# Altium schematic symbol library IMX291.SchLib: 12 symbols
Pins are listed as number, name and electrical type; pins without a type are passive.

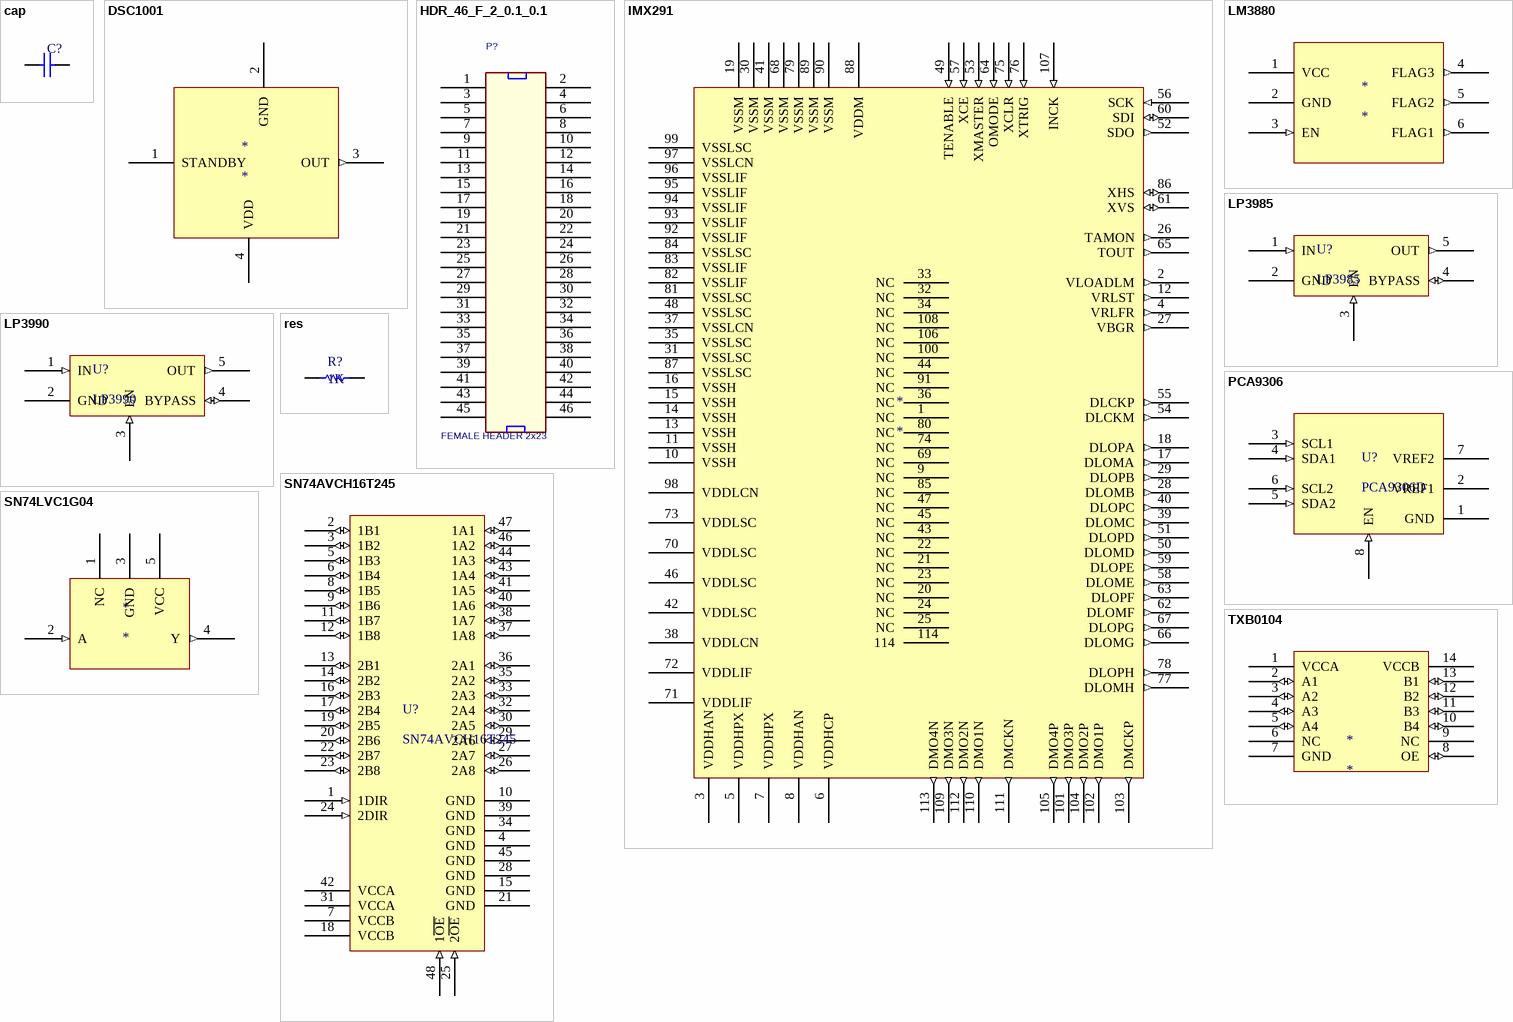
[diagram p0: symbols cap to TXB0104]

## cap
designator C?
footprint 0603 (Chip Capacitor, 2-Leads, Body 1.6x0.8mm, IPC Medium Density)
footprint 0402 (Chip Resistor, 2-Leads, Body 1.0x0.5mm, IPC Medium Density)
footprint 0201 (Chip Resistor, 2-Leads, Body 0.6x0.3mm, IPC Medium Density)
footprint 1210
footprint Inductor (Precision Wire Wound Inductor, 2-Leads, Body 3.8x3.8mm, IPC Medium Density)
pins: 1, 2

## DSC1001
designator *
footprint DSC1001
pins: 1 STANDBY, 2 GND, 3 OUT (out), 4 VDD

## HDR_46_F_2_0.1_0.1
designator P?, comment FEMALE HEADER 2x23
CONN HEADER FMAL 46PS.1" DL GOLD; Manufacturer: Sullins Connector Solutions; Manufacturer Part Number: PPPC232LFBN-RC; Number of Positions: 46; Number of Positions Loaded: All; Pitch: 0.100" (2.54mm); Supplier 1: Digi-Key; Supplier Part Number 1: S7126-ND; RoHS: RoHS Compliant; Category: Connectors, Interconnects; Stock 1: 750; Pricing 1: 1=2.75, 10=2.325, 25=2.2196, 50=2.0084, 100=1.7969, 250=1.58552, 500=1.4798, 1000=1.3741, 2500=1.32125 (USD); Connector Type: Header; Contact Type: Female Socket; Number of Rows: 2; Row Spacing: 0.100" (2.54mm); Mounting Type: Through Hole; Termination: Solder; Fastening Type: -; Features: -; Contact Finish: Gold; Contact Finish Thickness: Flash; Color: Black; Packaging: Bulk; ComponentLink1URL: http://www.sullinscorp.com/drawings/78_P(N)PxCxxxLFBN-RC,_10492-G.pdf; ComponentLink1Description: http://www.sullinscorp.com/drawings/78_P(N)PxCxxxLFBN-RC,_10492-G.pdf
footprint HEADER23X2
pins: 1, 2 26, 3 2, 4 27, 5 3, 6 28, 7 4, 8 29, 9 5, 10 30, 11 6, 12 31, 13 7, 14 32, 15 8, 16 33, 17 9, 18 34, 19 10, 20 35, 21 11, 22 36, 23 12, 24 37, 25 13, 26 38, 27 14, 28 39, 29 15, 30 40, 31 16, 32 41, 33 17, 34 42, 35 18, 36 43, 37 19, 38 44, 39 20, 40 45, 41 21, 42 46, 43 22, 44 47, 45 23, 46 48

## IMX291
designator *
footprint LGA110C80P14X11_1200X930X350 (LGA, 110-Leads, Body 12.00x9.30mmx3.50mm, Pitch 0.80mm)
pins: 1 NC, 2 VLOADLM (out), 3 VDDHAN (power), 4 VRLFR (out), 5 VDDHPX (power), 6 VDDHCP (power), 7 VDDHPX (power), 8 VDDHAN (power), 9 NC, 10 VSSH (power), 11 VSSH (power), 12 VRLST (out), 13 VSSH (power), 14 VSSH (power), 15 VSSH (power), 16 VSSH (power), 17 DLOMA (out), 18 DLOPA (out), 19 VSSM (power), 20 NC, 21 NC, 22 NC, 23 NC, 24 NC, 25 NC, 26 TAMON (out), 27 VBGR (out), 28 DLOMB (out), 29 DLOPB (out), 30 VSSM (power), 31 VSSLSC (power), 32 NC, 33 NC, 34 NC, 35 VSSLSC (power), 36 NC, 37 VSSLCN (power), 38 VDDLCN (power), 39 DLOMC (out), 40 DLOPC (out), 41 VSSM (power), 42 VDDLSC (power), 43 NC, 44 NC, 45 NC, 46 VDDLSC (power), 47 NC, 48 VSSLSC (power), 49 TENABLE (in), 50 DLOMD (out), 51 DLOPD (out), 52 SDO (out), 53 XMASTER (in), 54 DLCKM (out), 55 DLCKP (out), 56 SCK (in), 57 XCE (in), 58 DLOME (out), 59 DLOPE (out), 60 SDI (io), 61 XVS (io), 62 DLOMF (out), 63 DLOPF (out), 64 OMODE (in), 65 TOUT (out), 66 DLOMG (out), 67 DLOPG (out), 68 VSSM (power), 69 NC, 70 VDDLSC (power), 71 VDDLIF (power), 72 VDDLIF (power), 73 VDDLSC (power), 74 NC, 75 XCLR (in), 76 XTRIG (in), 77 DLOMH (out), 78 DLOPH (out), 79 VSSM (power), 80 NC, 81 VSSLSC (power), 82 VSSLIF (power), 83 VSSLIF (power), 84 VSSLSC (power), 85 NC, 86 XHS (io), 87 VSSLSC (power), 88 VDDM (power), 89 VSSM (power), 90 VSSM (power), 91 NC, 92 VSSLIF (power), 93 VSSLIF (power), 94 VSSLIF (power), 95 VSSLIF (power), 96 VSSLIF (power), 97 VSSLCN (power), 98 VDDLCN (power), 99 VSSLSC (power), 100 NC, 101 DMO3P (out), 102 DMO1P (out), 103 DMCKP (out), 104 DMO2P (out), 105 DMO4P (out), 106 NC, 107 INCK (in), 108 NC, 109 DMO3N (out), 110 DMO1N (out), 111 DMCKN (out), 112 DMO2N (out), 113 DMO4N (out), 114

## LM3880
designator *
footprint SOT23-6_M (SOT23, 6-Leads, Body 2.9x1.6mm, Pitch 0.95mm, Lead Span 2.7mm, IPC Low Density)
pins: 1 VCC (power), 2 GND (power), 3 EN (in), 4 FLAG3 (out), 5 FLAG2 (out), 6 FLAG1 (out)

## LP3985
designator U?
footprint DBV005 (SOT-23/SC-74A; 5 Leads; Body 3 x 3 mm, inc. leads (LxW max))
pins: 1 IN (in), 2 GND (power), 3 EN (in), 4 BYPASS (io), 5 OUT (out)

## LP3990
designator U?
footprint DBV005 (SOT-23/SC-74A; 5 Leads; Body 3 x 3 mm, inc. leads (LxW max))
pins: 1 IN (in), 2 GND (power), 3 EN (in), 4 BYPASS (io), 5 OUT (out)

## PCA9306
designator U?, comment PCA9306D
footprint D008_M (8-Pin Small Outline Integrated Circuit 1.27 mm Pitch, IPC Low Density)
pins: 1 GND (power), 2 VREF1 (power), 3 SCL1 (in), 4 SDA1 (in), 5 SDA2 (in), 6 SCL2 (in), 7 VREF2 (power), 8 EN (in)

## res
designator R?, comment 1K
footprint 0603 (Chip Capacitor, 2-Leads, Body 1.6x0.8mm, IPC Medium Density)
footprint 0201 (Chip Resistor, 2-Leads, Body 0.6x0.3mm, IPC Medium Density)
footprint 0402 (Chip Resistor, 2-Leads, Body 1.0x0.5mm, IPC Medium Density)
pins: 1, 2

## SN74AVCH16T245
designator U?
footprint TSSOP48
pins: 1 1DIR (in), 2 1B1 (io), 3 1B2 (io), 4 GND (power), 5 1B3 (io), 6 1B4 (io), 7 VCCB (power), 8 1B5 (io), 9 1B6 (io), 10 GND (power), 11 1B7 (io), 12 1B8 (io), 13 2B1 (io), 14 2B2 (io), 15 GND (power), 16 2B3 (io), 17 2B4 (io), 18 VCCB (power), 19 2B5 (io), 20 2B6 (io), 21 GND (power), 22 2B7 (io), 23 2B8 (io), 24 2DIR (in), 25 2~{OE} (in), 26 2A8 (io), 27 2A7 (io), 28 GND (power), 29 2A6 (io), 30 2A5 (io), 31 VCCA (power), 32 2A4 (io), 33 2A3 (io), 34 GND (power), 35 2A2 (io), 36 2A1 (io), 37 1A8 (io), 38 1A7 (io), 39 GND (power), 40 1A6 (io), 41 1A5 (io), 42 VCCA (power), 43 1A4 (io), 44 1A3 (io), 45 GND (power), 46 1A2 (io), 47 1A1 (io), 48 1~{OE} (in)

## SN74LVC1G04
designator *
footprint DBV005 (SOT-23/SC-74A; 5 Leads; Body 3 x 3 mm, inc. leads (LxW max))
pins: 1 NC, 2 A (in), 3 GND (power), 4 Y (out), 5 VCC (power)

## TXB0104
designator *
footprint TSSOP14_M (14-Pin Small Outline Integrated Circuit 1.27 mm Pitch, IPC Low Density)
pins: 1 VCCA (power), 2 A1 (io), 3 A2 (io), 4 A3 (io), 5 A4 (io), 6 NC, 7 GND (power), 8 OE (io), 9 NC, 10 B4 (io), 11 B3 (io), 12 B2 (io), 13 B1 (io), 14 VCCB (power)